# Altium footprint library Altera.PcbLib: 6 footprints (part 3 of 6)
Each footprint in its own frame and in the unit in brackets; x right, y up, seen from the top. Pads: shape width x height; smd on the part's side, far side on the other; paste and mask are expansions set on the pad; w line width, h text height; cw(c..) or ccw(c..) is an arc to the next point about the centre after c.
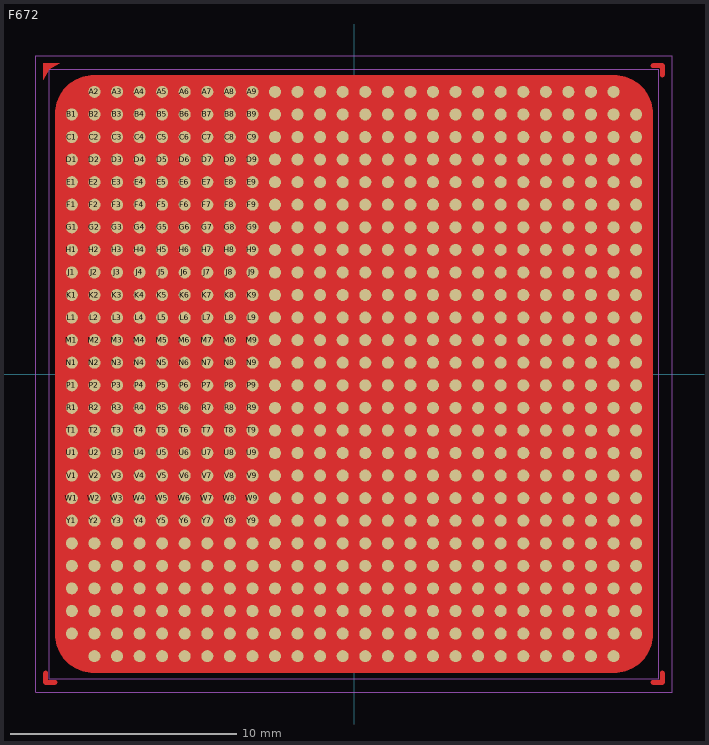
[diagram p2: the footprint, top view; thin cyan lines are the x and y axes]

## F672 [mil]
pads (672):
  round 21 smd mask+2: A2(-452.76,492.13) A3(-413.39,492.13) A4(-374.02,492.13) A5(-334.65,492.13) A6(-295.28,492.13) A7(-255.91,492.13) A8(-216.54,492.13) A9(-177.17,492.13) A10(-137.8,492.13) A11(-98.43,492.13) A12(-59.06,492.13) A13(-19.68,492.13) A14(19.69,492.13) A15(59.06,492.13) A16(98.43,492.13) A17(137.8,492.13) A18(177.17,492.13) A19(216.54,492.13) A20(255.91,492.13) A21(295.28,492.13) A22(334.65,492.13) A23(374.02,492.13) A24(413.39,492.13) A25(452.76,492.13) AA1(-492.13,-295.28) AA2(-452.76,-295.28) AA3(-413.39,-295.28) AA4(-374.02,-295.28) AA5(-334.65,-295.28) AA6(-295.28,-295.28) AA7(-255.91,-295.28) AA8(-216.54,-295.28) AA9(-177.17,-295.28) AA10(-137.8,-295.28) AA11(-98.43,-295.28) AA12(-59.06,-295.28) AA13(-19.68,-295.28) AA14(19.69,-295.28) AA15(59.06,-295.28) AA16(98.43,-295.28) AA17(137.8,-295.28) AA18(177.17,-295.28) AA19(216.54,-295.28) AA20(255.91,-295.28) AA21(295.28,-295.28) AA22(334.65,-295.28) AA23(374.02,-295.28) AA24(413.39,-295.28) AA25(452.76,-295.28) AA26(492.13,-295.28) AB1(-492.13,-334.65) AB2(-452.76,-334.65) AB3(-413.39,-334.65) AB4(-374.02,-334.65) AB5(-334.65,-334.65) AB6(-295.28,-334.65) AB7(-255.91,-334.65) AB8(-216.54,-334.65) AB9(-177.17,-334.65) AB10(-137.8,-334.65) AB11(-98.43,-334.65) AB12(-59.06,-334.65) AB13(-19.68,-334.65) AB14(19.69,-334.65) AB15(59.06,-334.65) AB16(98.43,-334.65) AB17(137.8,-334.65) AB18(177.17,-334.65) AB19(216.54,-334.65) AB20(255.91,-334.65) AB21(295.28,-334.65) AB22(334.65,-334.65) AB23(374.02,-334.65) AB24(413.39,-334.65) AB25(452.76,-334.65) AB26(492.13,-334.65) AC1(-492.13,-374.02) AC2(-452.76,-374.02) AC3(-413.39,-374.02) AC4(-374.02,-374.02) AC5(-334.65,-374.02) AC6(-295.28,-374.02) AC7(-255.91,-374.02) AC8(-216.54,-374.02) AC9(-177.17,-374.02) AC10(-137.8,-374.02) AC11(-98.43,-374.02) AC12(-59.06,-374.02) AC13(-19.68,-374.02) AC14(19.69,-374.02) AC15(59.06,-374.02) AC16(98.43,-374.02) AC17(137.8,-374.02) AC18(177.17,-374.02) AC19(216.54,-374.02) AC20(255.91,-374.02) AC21(295.28,-374.02) AC22(334.65,-374.02) AC23(374.02,-374.02) AC24(413.39,-374.02) AC25(452.76,-374.02) AC26(492.13,-374.02) AD1(-492.13,-413.39) AD2(-452.76,-413.39) AD3(-413.39,-413.39) AD4(-374.02,-413.39) AD5(-334.65,-413.39) AD6(-295.28,-413.39) AD7(-255.91,-413.39) AD8(-216.54,-413.39) AD9(-177.17,-413.39) AD10(-137.8,-413.39) AD11(-98.43,-413.39) AD12(-59.06,-413.39) AD13(-19.68,-413.39) AD14(19.69,-413.39) AD15(59.06,-413.39) AD16(98.43,-413.39) AD17(137.8,-413.39) AD18(177.17,-413.39) AD19(216.54,-413.39) AD20(255.91,-413.39) AD21(295.28,-413.39) AD22(334.65,-413.39) AD23(374.02,-413.39) AD24(413.39,-413.39) AD25(452.76,-413.39) AD26(492.13,-413.39) AE1(-492.13,-452.76) AE2(-452.76,-452.76) AE3(-413.39,-452.76) AE4(-374.02,-452.76) AE5(-334.65,-452.76) AE6(-295.28,-452.76) AE7(-255.91,-452.76) AE8(-216.54,-452.76) AE9(-177.17,-452.76) AE10(-137.8,-452.76) AE11(-98.43,-452.76) AE12(-59.06,-452.76) AE13(-19.68,-452.76) AE14(19.69,-452.76) AE15(59.06,-452.76) AE16(98.43,-452.76) AE17(137.8,-452.76) AE18(177.17,-452.76) AE19(216.54,-452.76) AE20(255.91,-452.76) AE21(295.28,-452.76) AE22(334.65,-452.76) AE23(374.02,-452.76) AE24(413.39,-452.76) AE25(452.76,-452.76) AE26(492.13,-452.76) AF2(-452.76,-492.13) AF3(-413.39,-492.13) AF4(-374.02,-492.13) AF5(-334.65,-492.13) AF6(-295.28,-492.13) AF7(-255.91,-492.13) AF8(-216.54,-492.13) AF9(-177.17,-492.13) AF10(-137.8,-492.13) AF11(-98.43,-492.13) AF12(-59.06,-492.13) AF13(-19.68,-492.13) AF14(19.69,-492.13) AF15(59.06,-492.13) AF16(98.43,-492.13) AF17(137.8,-492.13) AF18(177.17,-492.13) AF19(216.54,-492.13) AF20(255.91,-492.13) AF21(295.28,-492.13) AF22(334.65,-492.13) AF23(374.02,-492.13) AF24(413.39,-492.13) AF25(452.76,-492.13) B1(-492.13,452.76) B2(-452.76,452.76) B3(-413.39,452.76) B4(-374.02,452.76) B5(-334.65,452.76) B6(-295.28,452.76) B7(-255.91,452.76) B8(-216.54,452.76) B9(-177.17,452.76) B10(-137.8,452.76) B11(-98.43,452.76) B12(-59.06,452.76) B13(-19.68,452.76) B14(19.69,452.76) B15(59.06,452.76) B16(98.43,452.76) B17(137.8,452.76) B18(177.17,452.76) B19(216.54,452.76) B20(255.91,452.76) B21(295.28,452.76) B22(334.65,452.76) B23(374.02,452.76) B24(413.39,452.76) B25(452.76,452.76) B26(492.13,452.76) C1(-492.13,413.39) C2(-452.76,413.39) C3(-413.39,413.39) C4(-374.02,413.39) C5(-334.65,413.39) C6(-295.28,413.39) C7(-255.91,413.39) C8(-216.54,413.39) C9(-177.17,413.39) C10(-137.8,413.39) C11(-98.43,413.39) C12(-59.06,413.39) C13(-19.68,413.39) C14(19.69,413.39) C15(59.06,413.39) C16(98.43,413.39) C17(137.8,413.39) C18(177.17,413.39) C19(216.54,413.39) C20(255.91,413.39) C21(295.28,413.39) C22(334.65,413.39) C23(374.02,413.39) C24(413.39,413.39) C25(452.76,413.39) C26(492.13,413.39) D1(-492.13,374.02) D2(-452.76,374.02) D3(-413.39,374.02) D4(-374.02,374.02) D5(-334.65,374.02) D6(-295.28,374.02) D7(-255.91,374.02) D8(-216.54,374.02) D9(-177.17,374.02) D10(-137.8,374.02) D11(-98.43,374.02) D12(-59.06,374.02) D13(-19.68,374.02) D14(19.69,374.02) D15(59.06,374.02) D16(98.43,374.02) D17(137.8,374.02) D18(177.17,374.02) D19(216.54,374.02) D20(255.91,374.02) D21(295.28,374.02) D22(334.65,374.02) D23(374.02,374.02) D24(413.39,374.02) D25(452.76,374.02) D26(492.13,374.02) E1(-492.13,334.65) E2(-452.76,334.65) E3(-413.39,334.65) E4(-374.02,334.65) E5(-334.65,334.65) E6(-295.28,334.65) E7(-255.91,334.65) E8(-216.54,334.65) E9(-177.17,334.65) E10(-137.8,334.65) E11(-98.43,334.65) E12(-59.06,334.65) E13(-19.68,334.65) E14(19.69,334.65) E15(59.06,334.65) E16(98.43,334.65) E17(137.8,334.65) E18(177.17,334.65) E19(216.54,334.65) E20(255.91,334.65) E21(295.28,334.65) E22(334.65,334.65) E23(374.02,334.65) E24(413.39,334.65) E25(452.76,334.65) E26(492.13,334.65) F1(-492.13,295.28) F2(-452.76,295.28) F3(-413.39,295.28) F4(-374.02,295.28) F5(-334.65,295.28) F6(-295.28,295.28) F7(-255.91,295.28) F8(-216.54,295.28) F9(-177.17,295.28) F10(-137.8,295.28) F11(-98.43,295.28) F12(-59.06,295.28) F13(-19.68,295.28) F14(19.69,295.28) F15(59.06,295.28) F16(98.43,295.28) F17(137.8,295.28) F18(177.17,295.28) F19(216.54,295.28) F20(255.91,295.28) F21(295.28,295.28) F22(334.65,295.28) F23(374.02,295.28) F24(413.39,295.28) F25(452.76,295.28) F26(492.13,295.28) G1(-492.13,255.91) G2(-452.76,255.91) G3(-413.39,255.91) G4(-374.02,255.91) G5(-334.65,255.91) G6(-295.28,255.91) G7(-255.91,255.91) G8(-216.54,255.91) G9(-177.17,255.91) G10(-137.8,255.91) G11(-98.43,255.91) G12(-59.06,255.91) G13(-19.68,255.91) G14(19.69,255.91) G15(59.06,255.91) G16(98.43,255.91) G17(137.8,255.91) G18(177.17,255.91) G19(216.54,255.91) G20(255.91,255.91) G21(295.28,255.91) G22(334.65,255.91) G23(374.02,255.91) G24(413.39,255.91) G25(452.76,255.91) G26(492.13,255.91) H1(-492.13,216.54) H2(-452.76,216.54) H3(-413.39,216.54) H4(-374.02,216.54) H5(-334.65,216.54) H6(-295.28,216.54) H7(-255.91,216.54) H8(-216.54,216.54) H9(-177.17,216.54) H10(-137.8,216.54) H11(-98.43,216.54) H12(-59.06,216.54) H13(-19.68,216.54) H14(19.69,216.54) H15(59.06,216.54) H16(98.43,216.54) H17(137.8,216.54) H18(177.17,216.54) H19(216.54,216.54) H20(255.91,216.54) H21(295.28,216.54) H22(334.65,216.54) H23(374.02,216.54) H24(413.39,216.54) H25(452.76,216.54) H26(492.13,216.54) J1(-492.13,177.17) J2(-452.76,177.17) J3(-413.39,177.17) J4(-374.02,177.17) J5(-334.65,177.17) J6(-295.28,177.17) J7(-255.91,177.17) J8(-216.54,177.17) J9(-177.17,177.17) J10(-137.8,177.17) J11(-98.43,177.17) J12(-59.06,177.17) J13(-19.68,177.17) J14(19.69,177.17) J15(59.06,177.17) J16(98.43,177.17) J17(137.8,177.17) J18(177.17,177.17) J19(216.54,177.17) J20(255.91,177.17) J21(295.28,177.17) J22(334.65,177.17) J23(374.02,177.17) J24(413.39,177.17) J25(452.76,177.17) J26(492.13,177.17) K1(-492.13,137.8) K2(-452.76,137.8) K3(-413.39,137.8) K4(-374.02,137.8) K5(-334.65,137.8) K6(-295.28,137.8) K7(-255.91,137.8) K8(-216.54,137.8) K9(-177.17,137.8) K10(-137.8,137.8) K11(-98.43,137.8) K12(-59.06,137.8) K13(-19.68,137.8) K14(19.69,137.8) K15(59.06,137.8) K16(98.43,137.8) K17(137.8,137.8) K18(177.17,137.8) K19(216.54,137.8) K20(255.91,137.8) K21(295.28,137.8) K22(334.65,137.8) K23(374.02,137.8) K24(413.39,137.8) K25(452.76,137.8) K26(492.13,137.8) L1(-492.13,98.43) L2(-452.76,98.43) L3(-413.39,98.43) L4(-374.02,98.43) L5(-334.65,98.43) L6(-295.28,98.43) L7(-255.91,98.43) L8(-216.54,98.43) L9(-177.17,98.43) L10(-137.8,98.43) L11(-98.43,98.43) L12(-59.06,98.43) L13(-19.68,98.43) L14(19.69,98.43) L15(59.06,98.43) L16(98.43,98.43) L17(137.8,98.43) L18(177.17,98.43) L19(216.54,98.43) L20(255.91,98.43) L21(295.28,98.43) L22(334.65,98.43) L23(374.02,98.43) L24(413.39,98.43) L25(452.76,98.43) L26(492.13,98.43) M1(-492.13,59.06) M2(-452.76,59.06) M3(-413.39,59.06) M4(-374.02,59.06) M5(-334.65,59.06) M6(-295.28,59.06) M7(-255.91,59.06) M8(-216.54,59.06) M9(-177.17,59.06) M10(-137.8,59.06) M11(-98.43,59.06) M12(-59.06,59.06) M13(-19.68,59.06) M14(19.69,59.06) M15(59.06,59.06) M16(98.43,59.06) M17(137.8,59.06) M18(177.17,59.06) M19(216.54,59.06) M20(255.91,59.06) M21(295.28,59.06) M22(334.65,59.06) M23(374.02,59.06) M24(413.39,59.06) M25(452.76,59.06) M26(492.13,59.06) N1(-492.13,19.69) N2(-452.76,19.69) N3(-413.39,19.69) N4(-374.02,19.69) N5(-334.65,19.69) N6(-295.28,19.69) N7(-255.91,19.69) N8(-216.54,19.69) N9(-177.17,19.69) N10(-137.8,19.69) N11(-98.43,19.69) N12(-59.06,19.69) N13(-19.68,19.69) N14(19.69,19.69) N15(59.06,19.69) N16(98.43,19.69) N17(137.8,19.69) N18(177.17,19.69) N19(216.54,19.69) N20(255.91,19.69) N21(295.28,19.69) N22(334.65,19.69) N23(374.02,19.69) N24(413.39,19.69) N25(452.76,19.69) N26(492.13,19.69) P1(-492.13,-19.68) P2(-452.76,-19.68) P3(-413.39,-19.68) P4(-374.02,-19.68) P5(-334.65,-19.68) P6(-295.28,-19.68) P7(-255.91,-19.68) P8(-216.54,-19.68) P9(-177.17,-19.68) P10(-137.8,-19.68) P11(-98.43,-19.68) P12(-59.06,-19.68) P13(-19.68,-19.68) P14(19.69,-19.68) P15(59.06,-19.68) P16(98.43,-19.68) P17(137.8,-19.68) P18(177.17,-19.68) P19(216.54,-19.68) P20(255.91,-19.68) P21(295.28,-19.68) P22(334.65,-19.68) P23(374.02,-19.68) P24(413.39,-19.68) P25(452.76,-19.68) P26(492.13,-19.68) R1(-492.13,-59.06) R2(-452.76,-59.06) R3(-413.39,-59.06) R4(-374.02,-59.06) R5(-334.65,-59.06) R6(-295.28,-59.06) R7(-255.91,-59.06) R8(-216.54,-59.06) R9(-177.17,-59.06) R10(-137.8,-59.06) R11(-98.43,-59.06) R12(-59.06,-59.06) R13(-19.68,-59.06) R14(19.69,-59.06) R15(59.06,-59.06) R16(98.43,-59.06) R17(137.8,-59.06) R18(177.17,-59.06) R19(216.54,-59.06) R20(255.91,-59.06) R21(295.28,-59.06) R22(334.65,-59.06) R23(374.02,-59.06) R24(413.39,-59.06) R25(452.76,-59.06) R26(492.13,-59.06) T1(-492.13,-98.43) T2(-452.76,-98.43) T3(-413.39,-98.43) T4(-374.02,-98.43) T5(-334.65,-98.43) T6(-295.28,-98.43) T7(-255.91,-98.43) T8(-216.54,-98.43) T9(-177.17,-98.43) T10(-137.8,-98.43) T11(-98.43,-98.43) T12(-59.06,-98.43) T13(-19.68,-98.43) T14(19.69,-98.43) T15(59.06,-98.43) T16(98.43,-98.43) T17(137.8,-98.43) T18(177.17,-98.43) T19(216.54,-98.43) T20(255.91,-98.43) T21(295.28,-98.43) T22(334.65,-98.43) T23(374.02,-98.43) T24(413.39,-98.43) T25(452.76,-98.43) T26(492.13,-98.43) U1(-492.13,-137.8) U2(-452.76,-137.8) U3(-413.39,-137.8) U4(-374.02,-137.8) U5(-334.65,-137.8) U6(-295.28,-137.8) U7(-255.91,-137.8) U8(-216.54,-137.8) U9(-177.17,-137.8) U10(-137.8,-137.8) U11(-98.43,-137.8) U12(-59.06,-137.8) U13(-19.68,-137.8) U14(19.69,-137.8) U15(59.06,-137.8) U16(98.43,-137.8) U17(137.8,-137.8) U18(177.17,-137.8) U19(216.54,-137.8) U20(255.91,-137.8) U21(295.28,-137.8) U22(334.65,-137.8) U23(374.02,-137.8) U24(413.39,-137.8) U25(452.76,-137.8) U26(492.13,-137.8) V1(-492.13,-177.17) V2(-452.76,-177.17) V3(-413.39,-177.17) V4(-374.02,-177.17) V5(-334.65,-177.17) V6(-295.28,-177.17) V7(-255.91,-177.17) V8(-216.54,-177.17) V9(-177.17,-177.17) V10(-137.8,-177.17) V11(-98.43,-177.17) V12(-59.06,-177.17) V13(-19.68,-177.17) V14(19.69,-177.17) V15(59.06,-177.17) V16(98.43,-177.17) V17(137.8,-177.17) V18(177.17,-177.17) V19(216.54,-177.17) V20(255.91,-177.17) V21(295.28,-177.17) V22(334.65,-177.17) V23(374.02,-177.17) V24(413.39,-177.17) V25(452.76,-177.17) V26(492.13,-177.17) W1(-492.13,-216.54) W2(-452.76,-216.54) W3(-413.39,-216.54) W4(-374.02,-216.54) W5(-334.65,-216.54) W6(-295.28,-216.54) W7(-255.91,-216.54) W8(-216.54,-216.54) W9(-177.17,-216.54) W10(-137.8,-216.54) W11(-98.43,-216.54) W12(-59.06,-216.54) W13(-19.68,-216.54) W14(19.69,-216.54) W15(59.06,-216.54) W16(98.43,-216.54) W17(137.8,-216.54) W18(177.17,-216.54) W19(216.54,-216.54) W20(255.91,-216.54) W21(295.28,-216.54) W22(334.65,-216.54) W23(374.02,-216.54) W24(413.39,-216.54) W25(452.76,-216.54) W26(492.13,-216.54) Y1(-492.13,-255.91) Y2(-452.76,-255.91) Y3(-413.39,-255.91) Y4(-374.02,-255.91) Y5(-334.65,-255.91) Y6(-295.28,-255.91) Y7(-255.91,-255.91) Y8(-216.54,-255.91) Y9(-177.17,-255.91) Y10(-137.8,-255.91) Y11(-98.43,-255.91) Y12(-59.06,-255.91) Y13(-19.68,-255.91) Y14(19.69,-255.91) Y15(59.06,-255.91) Y16(98.43,-255.91) Y17(137.8,-255.91) Y18(177.17,-255.91) Y19(216.54,-255.91) Y20(255.91,-255.91) Y21(295.28,-255.91) Y22(334.65,-255.91) Y23(374.02,-255.91) Y24(413.39,-255.91) Y25(452.76,-255.91) Y26(492.13,-255.91)
Top Layer:
  region: -533.96,-521.96 -533.96,-521.16 -534.57,-519.69 -535.69,-518.57 -537.16,-517.96 -537.96,-517.96 -538.76,-517.96 -540.23,-518.57 -541.35,-519.69 -541.96,-521.16 -541.96,-521.96 -541.96,-537.96 -541.96,-538.76 -541.35,-540.23 -540.23,-541.35 -538.76,-541.96 -537.96,-541.96 -521.96,-541.96 -521.16,-541.96 -519.69,-541.35 -518.57,-540.23 -517.96,-538.76 -517.96,-537.96 -517.96,-537.16 -518.57,-535.69 -519.69,-534.57 -521.16,-533.96 -521.96,-533.96 -531.96,-533.96 -532.35,-533.92 -533.07,-533.62 -533.62,-533.07 -533.92,-532.35 -533.96,-531.96
  region: 521.96,-533.96 521.16,-533.96 519.69,-534.57 518.57,-535.69 517.96,-537.16 517.96,-537.96 517.96,-538.76 518.57,-540.23 519.69,-541.35 521.16,-541.96 521.96,-541.96 537.96,-541.96 538.76,-541.96 540.23,-541.35 541.35,-540.23 541.96,-538.76 541.96,-537.96 541.96,-521.96 541.96,-521.16 541.35,-519.69 540.23,-518.57 538.76,-517.96 537.96,-517.96 537.16,-517.96 535.69,-518.57 534.57,-519.69 533.96,-521.16 533.96,-521.96 533.96,-531.96 533.92,-532.35 533.62,-533.07 533.07,-533.62 532.35,-533.92 531.96,-533.96
  region: 533.96,521.96 533.96,521.16 534.57,519.69 535.69,518.57 537.16,517.96 537.96,517.96 538.76,517.96 540.23,518.57 541.35,519.69 541.96,521.16 541.96,521.96 541.96,537.96 541.96,538.76 541.35,540.23 540.23,541.35 538.76,541.96 537.96,541.96 521.96,541.96 521.16,541.96 519.69,541.35 518.57,540.23 517.96,538.76 517.96,537.96 517.96,537.16 518.57,535.69 519.69,534.57 521.16,533.96 521.96,533.96 531.96,533.96 532.35,533.92 533.07,533.62 533.62,533.07 533.92,532.35 533.96,531.96
  region: -541.96,541.96 -541.96,513.42 -531.5,531.5 -513.42,541.96
  pour cut-out: -452.76,521.26 -459.5,521.26 -472.74,518.63 -485.2,513.46 -496.42,505.97 -505.97,496.42 -513.46,485.2 -518.63,472.74 -521.26,459.5 -521.26,452.76 -521.26,-452.76 -521.26,-459.5 -518.63,-472.74 -513.46,-485.2 -505.97,-496.42 -496.42,-505.97 -485.2,-513.46 -472.74,-518.63 -459.5,-521.26 -452.76,-521.26 452.76,-521.26 459.5,-521.26 472.74,-518.63 485.21,-513.46 496.43,-505.97 505.97,-496.43 513.46,-485.2 518.63,-472.74 521.26,-459.5 521.26,-452.76 521.26,452.76 521.26,459.5 518.63,472.74 513.46,485.21 505.97,496.43 496.42,505.97 485.2,513.46 472.74,518.63 459.5,521.26 452.76,521.26
Top Designator:
  text ".Designator" at -127.64,-12.5 h35
Top Courtyard:
  lines w1: -555,-555 -555,555 555,555 555,-555 -555,-555
Top Component Outline:
  lines w1: -503.85,-464.57 -464.48,-503.94 ; -503.85,464.56 -464.48,503.93 ; 464.48,503.94 503.85,464.57 ; 464.57,-503.85 503.94,-464.48 ; -464.48,503.93 -464.48,503.94 ; -531.5,-531.5 -531.5,531.5 531.5,531.5 531.5,-531.5 -531.5,-531.5
3D body: height 40, standoff 35, extent -521.26,491.26 -491.26,521.26
3D body: height 21.81, standoff -1.81, extent -188.89,-503.94 -165.44,-480.32
3D body: height 21.81, standoff -1.81, extent -228.26,-503.94 -204.81,-480.32
3D body: height 21.81, standoff -1.81, extent -267.63,-503.94 -244.18,-480.32
3D body: height 21.81, standoff -1.81, extent -307,-503.94 -283.55,-480.32
3D body: height 21.81, standoff -1.81, extent -346.37,-503.94 -322.92,-480.32
3D body: height 21.81, standoff -1.81, extent -385.74,-503.94 -362.29,-480.32
3D body: height 21.81, standoff -1.81, extent -425.11,-503.94 -401.66,-480.32
3D body: height 21.81, standoff -1.81, extent -464.48,-503.94 -441.03,-480.32
3D body: height 21.81, standoff -1.81, extent 165.44,-503.94 188.89,-480.32
3D body: height 21.81, standoff -1.81, extent 126.07,-503.94 149.52,-480.32
3D body: height 21.81, standoff -1.81, extent 86.7,-503.94 110.15,-480.32
3D body: height 21.81, standoff -1.81, extent 47.33,-503.94 70.78,-480.32
3D body: height 21.81, standoff -1.81, extent 7.96,-503.94 31.41,-480.32
3D body: height 21.81, standoff -1.81, extent -31.41,-503.94 -7.96,-480.32
3D body: height 21.81, standoff -1.81, extent -70.78,-503.94 -47.33,-480.32
3D body: height 21.81, standoff -1.81, extent -110.15,-503.94 -86.7,-480.32
3D body: height 21.81, standoff -1.81, extent -149.52,-503.94 -126.07,-480.32
3D body: height 21.81, standoff -1.81, extent 441.03,-503.94 464.48,-480.32
3D body: height 21.81, standoff -1.81, extent 401.66,-503.94 425.11,-480.32
3D body: height 21.81, standoff -1.81, extent 362.29,-503.94 385.74,-480.32
3D body: height 21.81, standoff -1.81, extent 322.92,-503.94 346.37,-480.32
3D body: height 21.81, standoff -1.81, extent 283.55,-503.94 307,-480.32
3D body: height 21.81, standoff -1.81, extent 244.18,-503.94 267.63,-480.32
3D body: height 21.81, standoff -1.81, extent 204.81,-503.94 228.26,-480.32
3D body: height 21.81, standoff -1.81, extent -188.89,-464.57 -165.44,-440.95
3D body: height 21.81, standoff -1.81, extent -228.26,-464.57 -204.81,-440.95
3D body: height 21.81, standoff -1.81, extent -267.63,-464.57 -244.18,-440.95
3D body: height 21.81, standoff -1.81, extent -307,-464.57 -283.55,-440.95
3D body: height 21.81, standoff -1.81, extent -346.37,-464.57 -322.92,-440.95
3D body: height 21.81, standoff -1.81, extent -385.74,-464.57 -362.29,-440.95
3D body: height 21.81, standoff -1.81, extent -425.11,-464.57 -401.66,-440.95
3D body: height 21.81, standoff -1.81, extent -464.48,-464.57 -441.03,-440.95
3D body: height 21.81, standoff -1.81, extent -503.85,-464.57 -480.4,-440.95
3D body: height 21.81, standoff -1.81, extent 165.44,-464.57 188.89,-440.95
3D body: height 21.81, standoff -1.81, extent 126.07,-464.57 149.52,-440.95
3D body: height 21.81, standoff -1.81, extent 86.7,-464.57 110.15,-440.95
3D body: height 21.81, standoff -1.81, extent 47.33,-464.57 70.78,-440.95
3D body: height 21.81, standoff -1.81, extent 7.96,-464.57 31.41,-440.95
3D body: height 21.81, standoff -1.81, extent -31.41,-464.57 -7.96,-440.95
3D body: height 21.81, standoff -1.81, extent -70.78,-464.57 -47.33,-440.95
3D body: height 21.81, standoff -1.81, extent -110.15,-464.57 -86.7,-440.95
3D body: height 21.81, standoff -1.81, extent -149.52,-464.57 -126.07,-440.95
3D body: height 21.81, standoff -1.81, extent 480.4,-464.57 503.85,-440.95
3D body: height 21.81, standoff -1.81, extent 441.03,-464.57 464.48,-440.95
3D body: height 21.81, standoff -1.81, extent 401.66,-464.57 425.11,-440.95
3D body: height 21.81, standoff -1.81, extent 362.29,-464.57 385.74,-440.95
3D body: height 21.81, standoff -1.81, extent 322.92,-464.57 346.37,-440.95
3D body: height 21.81, standoff -1.81, extent 283.55,-464.57 307,-440.95
3D body: height 21.81, standoff -1.81, extent 244.18,-464.57 267.63,-440.95
3D body: height 21.81, standoff -1.81, extent 204.81,-464.57 228.26,-440.95
3D body: height 21.81, standoff -1.81, extent -188.89,-425.2 -165.44,-401.58
3D body: height 21.81, standoff -1.81, extent -228.26,-425.2 -204.81,-401.58
3D body: height 21.81, standoff -1.81, extent -267.63,-425.2 -244.18,-401.58
3D body: height 21.81, standoff -1.81, extent -307,-425.2 -283.55,-401.58
3D body: height 21.81, standoff -1.81, extent -346.37,-425.2 -322.92,-401.58
3D body: height 21.81, standoff -1.81, extent -385.74,-425.2 -362.29,-401.58
3D body: height 21.81, standoff -1.81, extent -425.11,-425.2 -401.66,-401.58
3D body: height 21.81, standoff -1.81, extent -464.48,-425.2 -441.03,-401.58
3D body: height 21.81, standoff -1.81, extent -503.85,-425.2 -480.4,-401.58
3D body: height 21.81, standoff -1.81, extent 165.44,-425.2 188.89,-401.58
3D body: height 21.81, standoff -1.81, extent 126.07,-425.2 149.52,-401.58
3D body: height 21.81, standoff -1.81, extent 86.7,-425.2 110.15,-401.58
3D body: height 21.81, standoff -1.81, extent 47.33,-425.2 70.78,-401.58
3D body: height 21.81, standoff -1.81, extent 7.96,-425.2 31.41,-401.58
3D body: height 21.81, standoff -1.81, extent -31.41,-425.2 -7.96,-401.58
3D body: height 21.81, standoff -1.81, extent -70.78,-425.2 -47.33,-401.58
3D body: height 21.81, standoff -1.81, extent -110.15,-425.2 -86.7,-401.58
3D body: height 21.81, standoff -1.81, extent -149.52,-425.2 -126.07,-401.58
3D body: height 21.81, standoff -1.81, extent 480.4,-425.2 503.85,-401.58
3D body: height 21.81, standoff -1.81, extent 441.03,-425.2 464.48,-401.58
3D body: height 21.81, standoff -1.81, extent 401.66,-425.2 425.11,-401.58
3D body: height 21.81, standoff -1.81, extent 362.29,-425.2 385.74,-401.58
3D body: height 21.81, standoff -1.81, extent 322.92,-425.2 346.37,-401.58
3D body: height 21.81, standoff -1.81, extent 283.55,-425.2 307,-401.58
3D body: height 21.81, standoff -1.81, extent 244.18,-425.2 267.63,-401.58
3D body: height 21.81, standoff -1.81, extent 204.81,-425.2 228.26,-401.58
3D body: height 21.81, standoff -1.81, extent -188.89,-385.83 -165.44,-362.21
3D body: height 21.81, standoff -1.81, extent -228.26,-385.83 -204.81,-362.21
3D body: height 21.81, standoff -1.81, extent -267.63,-385.83 -244.18,-362.21
3D body: height 21.81, standoff -1.81, extent -307,-385.83 -283.55,-362.21
3D body: height 21.81, standoff -1.81, extent -346.37,-385.83 -322.92,-362.21
3D body: height 21.81, standoff -1.81, extent -385.74,-385.83 -362.29,-362.21
3D body: height 21.81, standoff -1.81, extent -425.11,-385.83 -401.66,-362.21
3D body: height 21.81, standoff -1.81, extent -464.48,-385.83 -441.03,-362.21
3D body: height 21.81, standoff -1.81, extent -503.85,-385.83 -480.4,-362.21
3D body: height 21.81, standoff -1.81, extent 165.44,-385.83 188.89,-362.21
3D body: height 21.81, standoff -1.81, extent 126.07,-385.83 149.52,-362.21
3D body: height 21.81, standoff -1.81, extent 86.7,-385.83 110.15,-362.21
3D body: height 21.81, standoff -1.81, extent 47.33,-385.83 70.78,-362.21
3D body: height 21.81, standoff -1.81, extent 7.96,-385.83 31.41,-362.21
3D body: height 21.81, standoff -1.81, extent -31.41,-385.83 -7.96,-362.21
3D body: height 21.81, standoff -1.81, extent -70.78,-385.83 -47.33,-362.21
3D body: height 21.81, standoff -1.81, extent -110.15,-385.83 -86.7,-362.21
3D body: height 21.81, standoff -1.81, extent -149.52,-385.83 -126.07,-362.21
3D body: height 21.81, standoff -1.81, extent 480.4,-385.83 503.85,-362.21
3D body: height 21.81, standoff -1.81, extent 441.03,-385.83 464.48,-362.21
3D body: height 21.81, standoff -1.81, extent 401.66,-385.83 425.11,-362.21
3D body: height 21.81, standoff -1.81, extent 362.29,-385.83 385.74,-362.21
3D body: height 21.81, standoff -1.81, extent 322.92,-385.83 346.37,-362.21
3D body: height 21.81, standoff -1.81, extent 283.55,-385.83 307,-362.21
3D body: height 21.81, standoff -1.81, extent 244.18,-385.83 267.63,-362.21
3D body: height 21.81, standoff -1.81, extent 204.81,-385.83 228.26,-362.21
3D body: height 21.81, standoff -1.81, extent -188.89,-346.46 -165.44,-322.84
3D body: height 21.81, standoff -1.81, extent -228.26,-346.46 -204.81,-322.84
3D body: height 21.81, standoff -1.81, extent -267.63,-346.46 -244.18,-322.84
3D body: height 21.81, standoff -1.81, extent -307,-346.46 -283.55,-322.84
3D body: height 21.81, standoff -1.81, extent -346.37,-346.46 -322.92,-322.84
3D body: height 21.81, standoff -1.81, extent -385.74,-346.46 -362.29,-322.84
3D body: height 21.81, standoff -1.81, extent -425.11,-346.46 -401.66,-322.84
3D body: height 21.81, standoff -1.81, extent -464.48,-346.46 -441.03,-322.84
3D body: height 21.81, standoff -1.81, extent -503.85,-346.46 -480.4,-322.84
3D body: height 21.81, standoff -1.81, extent 165.44,-346.46 188.89,-322.84
3D body: height 21.81, standoff -1.81, extent 126.07,-346.46 149.52,-322.84
3D body: height 21.81, standoff -1.81, extent 86.7,-346.46 110.15,-322.84
3D body: height 21.81, standoff -1.81, extent 47.33,-346.46 70.78,-322.84
3D body: height 21.81, standoff -1.81, extent 7.96,-346.46 31.41,-322.84
3D body: height 21.81, standoff -1.81, extent -31.41,-346.46 -7.96,-322.84
3D body: height 21.81, standoff -1.81, extent -70.78,-346.46 -47.33,-322.84
3D body: height 21.81, standoff -1.81, extent -110.15,-346.46 -86.7,-322.84
3D body: height 21.81, standoff -1.81, extent -149.52,-346.46 -126.07,-322.84
3D body: height 21.81, standoff -1.81, extent 480.4,-346.46 503.85,-322.84
3D body: height 21.81, standoff -1.81, extent 441.03,-346.46 464.48,-322.84
3D body: height 21.81, standoff -1.81, extent 401.66,-346.46 425.11,-322.84
3D body: height 21.81, standoff -1.81, extent 362.29,-346.46 385.74,-322.84
3D body: height 21.81, standoff -1.81, extent 322.92,-346.46 346.37,-322.84
3D body: height 21.81, standoff -1.81, extent 283.55,-346.46 307,-322.84
3D body: height 21.81, standoff -1.81, extent 244.18,-346.46 267.63,-322.84
3D body: height 21.81, standoff -1.81, extent 204.81,-346.46 228.26,-322.84
3D body: height 21.81, standoff -1.81, extent -188.89,-307.09 -165.44,-283.47
3D body: height 21.81, standoff -1.81, extent -228.26,-307.09 -204.81,-283.47
3D body: height 21.81, standoff -1.81, extent -267.63,-307.09 -244.18,-283.47
3D body: height 21.81, standoff -1.81, extent -307,-307.09 -283.55,-283.47
3D body: height 21.81, standoff -1.81, extent -346.37,-307.09 -322.92,-283.47
3D body: height 21.81, standoff -1.81, extent -385.74,-307.09 -362.29,-283.47
3D body: height 21.81, standoff -1.81, extent -425.11,-307.09 -401.66,-283.47
3D body: height 21.81, standoff -1.81, extent -464.48,-307.09 -441.03,-283.47
3D body: height 21.81, standoff -1.81, extent -503.85,-307.09 -480.4,-283.47
3D body: height 21.81, standoff -1.81, extent 165.44,-307.09 188.89,-283.47
3D body: height 21.81, standoff -1.81, extent 126.07,-307.09 149.52,-283.47
3D body: height 21.81, standoff -1.81, extent 86.7,-307.09 110.15,-283.47
3D body: height 21.81, standoff -1.81, extent 47.33,-307.09 70.78,-283.47
3D body: height 21.81, standoff -1.81, extent 7.96,-307.09 31.41,-283.47
3D body: height 21.81, standoff -1.81, extent -31.41,-307.09 -7.96,-283.47
3D body: height 21.81, standoff -1.81, extent -70.78,-307.09 -47.33,-283.47
3D body: height 21.81, standoff -1.81, extent -110.15,-307.09 -86.7,-283.47
3D body: height 21.81, standoff -1.81, extent -149.52,-307.09 -126.07,-283.47
3D body: height 21.81, standoff -1.81, extent 480.4,-307.09 503.85,-283.47
3D body: height 21.81, standoff -1.81, extent 441.03,-307.09 464.48,-283.47
3D body: height 21.81, standoff -1.81, extent 401.66,-307.09 425.11,-283.47
3D body: height 21.81, standoff -1.81, extent 362.29,-307.09 385.74,-283.47
3D body: height 21.81, standoff -1.81, extent 322.92,-307.09 346.37,-283.47
3D body: height 21.81, standoff -1.81, extent 283.55,-307.09 307,-283.47
3D body: height 21.81, standoff -1.81, extent 244.18,-307.09 267.63,-283.47
3D body: height 21.81, standoff -1.81, extent 204.81,-307.09 228.26,-283.47
3D body: height 21.81, standoff -1.81, extent -188.89,-267.72 -165.44,-244.1
3D body: height 21.81, standoff -1.81, extent -228.26,-267.72 -204.81,-244.1
3D body: height 21.81, standoff -1.81, extent -267.63,-267.72 -244.18,-244.1
3D body: height 21.81, standoff -1.81, extent -307,-267.72 -283.55,-244.1
3D body: height 21.81, standoff -1.81, extent -346.37,-267.72 -322.92,-244.1
3D body: height 21.81, standoff -1.81, extent -385.74,-267.72 -362.29,-244.1
3D body: height 21.81, standoff -1.81, extent -425.11,-267.72 -401.66,-244.1
3D body: height 21.81, standoff -1.81, extent -464.48,-267.72 -441.03,-244.1
3D body: height 21.81, standoff -1.81, extent -503.85,-267.72 -480.4,-244.1
3D body: height 21.81, standoff -1.81, extent 165.44,-267.72 188.89,-244.1
3D body: height 21.81, standoff -1.81, extent 126.07,-267.72 149.52,-244.1
3D body: height 21.81, standoff -1.81, extent 86.7,-267.72 110.15,-244.1
3D body: height 21.81, standoff -1.81, extent 47.33,-267.72 70.78,-244.1
3D body: height 21.81, standoff -1.81, extent 7.96,-267.72 31.41,-244.1
3D body: height 21.81, standoff -1.81, extent -31.41,-267.72 -7.96,-244.1
3D body: height 21.81, standoff -1.81, extent -70.78,-267.72 -47.33,-244.1
3D body: height 21.81, standoff -1.81, extent -110.15,-267.72 -86.7,-244.1
3D body: height 21.81, standoff -1.81, extent -149.52,-267.72 -126.07,-244.1
3D body: height 21.81, standoff -1.81, extent 480.4,-267.72 503.85,-244.1
3D body: height 21.81, standoff -1.81, extent 441.03,-267.72 464.48,-244.1
3D body: height 21.81, standoff -1.81, extent 401.66,-267.72 425.11,-244.1
3D body: height 21.81, standoff -1.81, extent 362.29,-267.72 385.74,-244.1
3D body: height 21.81, standoff -1.81, extent 322.92,-267.72 346.37,-244.1
3D body: height 21.81, standoff -1.81, extent 283.55,-267.72 307,-244.1
3D body: height 21.81, standoff -1.81, extent 244.18,-267.72 267.63,-244.1
3D body: height 21.81, standoff -1.81, extent 204.81,-267.72 228.26,-244.1
3D body: height 21.81, standoff -1.81, extent -188.89,-228.35 -165.44,-204.73
3D body: height 21.81, standoff -1.81, extent -228.26,-228.35 -204.81,-204.73
3D body: height 21.81, standoff -1.81, extent -267.63,-228.35 -244.18,-204.73
3D body: height 21.81, standoff -1.81, extent -307,-228.35 -283.55,-204.73
3D body: height 21.81, standoff -1.81, extent -346.37,-228.35 -322.92,-204.73
3D body: height 21.81, standoff -1.81, extent -385.74,-228.35 -362.29,-204.73
3D body: height 21.81, standoff -1.81, extent -425.11,-228.35 -401.66,-204.73
3D body: height 21.81, standoff -1.81, extent -464.48,-228.35 -441.03,-204.73
3D body: height 21.81, standoff -1.81, extent -503.85,-228.35 -480.4,-204.73
3D body: height 21.81, standoff -1.81, extent 165.44,-228.35 188.89,-204.73
3D body: height 21.81, standoff -1.81, extent 126.07,-228.35 149.52,-204.73
3D body: height 21.81, standoff -1.81, extent 86.7,-228.35 110.15,-204.73
3D body: height 21.81, standoff -1.81, extent 47.33,-228.35 70.78,-204.73
3D body: height 21.81, standoff -1.81, extent 7.96,-228.35 31.41,-204.73
3D body: height 21.81, standoff -1.81, extent -31.41,-228.35 -7.96,-204.73
3D body: height 21.81, standoff -1.81, extent -70.78,-228.35 -47.33,-204.73
3D body: height 21.81, standoff -1.81, extent -110.15,-228.35 -86.7,-204.73
3D body: height 21.81, standoff -1.81, extent -149.52,-228.35 -126.07,-204.73
3D body: height 21.81, standoff -1.81, extent 480.4,-228.35 503.85,-204.73
3D body: height 21.81, standoff -1.81, extent 441.03,-228.35 464.48,-204.73
3D body: height 21.81, standoff -1.81, extent 401.66,-228.35 425.11,-204.73
3D body: height 21.81, standoff -1.81, extent 362.29,-228.35 385.74,-204.73
3D body: height 21.81, standoff -1.81, extent 322.92,-228.35 346.37,-204.73
3D body: height 21.81, standoff -1.81, extent 283.55,-228.35 307,-204.73
3D body: height 21.81, standoff -1.81, extent 244.18,-228.35 267.63,-204.73
3D body: height 21.81, standoff -1.81, extent 204.81,-228.35 228.26,-204.73
3D body: height 21.81, standoff -1.81, extent -188.89,-188.98 -165.44,-165.36
3D body: height 21.81, standoff -1.81, extent -228.26,-188.98 -204.81,-165.36
3D body: height 21.81, standoff -1.81, extent -267.63,-188.98 -244.18,-165.36
3D body: height 21.81, standoff -1.81, extent -307,-188.98 -283.55,-165.36
3D body: height 21.81, standoff -1.81, extent -346.37,-188.98 -322.92,-165.36
3D body: height 21.81, standoff -1.81, extent -385.74,-188.98 -362.29,-165.36
3D body: height 21.81, standoff -1.81, extent -425.11,-188.98 -401.66,-165.36
3D body: height 21.81, standoff -1.81, extent -464.48,-188.98 -441.03,-165.36
3D body: height 21.81, standoff -1.81, extent -503.85,-188.98 -480.4,-165.36
3D body: height 21.81, standoff -1.81, extent 165.44,-188.98 188.89,-165.36
3D body: height 21.81, standoff -1.81, extent 126.07,-188.98 149.52,-165.36
3D body: height 21.81, standoff -1.81, extent 86.7,-188.98 110.15,-165.36
3D body: height 21.81, standoff -1.81, extent 47.33,-188.98 70.78,-165.36
3D body: height 21.81, standoff -1.81, extent 7.96,-188.98 31.41,-165.36
3D body: height 21.81, standoff -1.81, extent -31.41,-188.98 -7.96,-165.36
3D body: height 21.81, standoff -1.81, extent -70.78,-188.98 -47.33,-165.36
3D body: height 21.81, standoff -1.81, extent -110.15,-188.98 -86.7,-165.36
3D body: height 21.81, standoff -1.81, extent -149.52,-188.98 -126.07,-165.36
3D body: height 21.81, standoff -1.81, extent 480.4,-188.98 503.85,-165.36
3D body: height 21.81, standoff -1.81, extent 441.03,-188.98 464.48,-165.36
3D body: height 21.81, standoff -1.81, extent 401.66,-188.98 425.11,-165.36
3D body: height 21.81, standoff -1.81, extent 362.29,-188.98 385.74,-165.36
3D body: height 21.81, standoff -1.81, extent 322.92,-188.98 346.37,-165.36
3D body: height 21.81, standoff -1.81, extent 283.55,-188.98 307,-165.36
3D body: height 21.81, standoff -1.81, extent 244.18,-188.98 267.63,-165.36
3D body: height 21.81, standoff -1.81, extent 204.81,-188.98 228.26,-165.36
3D body: height 21.81, standoff -1.81, extent -188.89,-149.61 -165.44,-125.99
3D body: height 21.81, standoff -1.81, extent -228.26,-149.61 -204.81,-125.99
3D body: height 21.81, standoff -1.81, extent -267.63,-149.61 -244.18,-125.99
3D body: height 21.81, standoff -1.81, extent -307,-149.61 -283.55,-125.99
3D body: height 21.81, standoff -1.81, extent -346.37,-149.61 -322.92,-125.99
3D body: height 21.81, standoff -1.81, extent -385.74,-149.61 -362.29,-125.99
3D body: height 21.81, standoff -1.81, extent -425.11,-149.61 -401.66,-125.99
3D body: height 21.81, standoff -1.81, extent -464.48,-149.61 -441.03,-125.99
3D body: height 21.81, standoff -1.81, extent -503.85,-149.61 -480.4,-125.99
3D body: height 21.81, standoff -1.81, extent 165.44,-149.61 188.89,-125.99
3D body: height 21.81, standoff -1.81, extent 126.07,-149.61 149.52,-125.99
3D body: height 21.81, standoff -1.81, extent 86.7,-149.61 110.15,-125.99
3D body: height 21.81, standoff -1.81, extent 47.33,-149.61 70.78,-125.99
3D body: height 21.81, standoff -1.81, extent 7.96,-149.61 31.41,-125.99
3D body: height 21.81, standoff -1.81, extent -31.41,-149.61 -7.96,-125.99
3D body: height 21.81, standoff -1.81, extent -70.78,-149.61 -47.33,-125.99
3D body: height 21.81, standoff -1.81, extent -110.15,-149.61 -86.7,-125.99
3D body: height 21.81, standoff -1.81, extent -149.52,-149.61 -126.07,-125.99
3D body: height 21.81, standoff -1.81, extent 480.4,-149.61 503.85,-125.99
3D body: height 21.81, standoff -1.81, extent 441.03,-149.61 464.48,-125.99
3D body: height 21.81, standoff -1.81, extent 401.66,-149.61 425.11,-125.99
3D body: height 21.81, standoff -1.81, extent 362.29,-149.61 385.74,-125.99
3D body: height 21.81, standoff -1.81, extent 322.92,-149.61 346.37,-125.99
3D body: height 21.81, standoff -1.81, extent 283.55,-149.61 307,-125.99
3D body: height 21.81, standoff -1.81, extent 244.18,-149.61 267.63,-125.99
3D body: height 21.81, standoff -1.81, extent 204.81,-149.61 228.26,-125.99
3D body: height 21.81, standoff -1.81, extent -188.89,-110.24 -165.44,-86.62
3D body: height 21.81, standoff -1.81, extent -228.26,-110.24 -204.81,-86.62
3D body: height 21.81, standoff -1.81, extent -267.63,-110.24 -244.18,-86.62
3D body: height 21.81, standoff -1.81, extent -307,-110.24 -283.55,-86.62
3D body: height 21.81, standoff -1.81, extent -346.37,-110.24 -322.92,-86.62
3D body: height 21.81, standoff -1.81, extent -385.74,-110.24 -362.29,-86.62
3D body: height 21.81, standoff -1.81, extent -425.11,-110.24 -401.66,-86.62
3D body: height 21.81, standoff -1.81, extent -464.48,-110.24 -441.03,-86.62
3D body: height 21.81, standoff -1.81, extent -503.85,-110.24 -480.4,-86.62
3D body: height 21.81, standoff -1.81, extent 165.44,-110.24 188.89,-86.62
3D body: height 21.81, standoff -1.81, extent 126.07,-110.24 149.52,-86.62
3D body: height 21.81, standoff -1.81, extent 86.7,-110.24 110.15,-86.62
3D body: height 21.81, standoff -1.81, extent 47.33,-110.24 70.78,-86.62
3D body: height 21.81, standoff -1.81, extent 7.96,-110.24 31.41,-86.62
3D body: height 21.81, standoff -1.81, extent -31.41,-110.24 -7.96,-86.62
3D body: height 21.81, standoff -1.81, extent -70.78,-110.24 -47.33,-86.62
3D body: height 21.81, standoff -1.81, extent -110.15,-110.24 -86.7,-86.62
3D body: height 21.81, standoff -1.81, extent -149.52,-110.24 -126.07,-86.62
3D body: height 21.81, standoff -1.81, extent 480.4,-110.24 503.85,-86.62
3D body: height 21.81, standoff -1.81, extent 441.03,-110.24 464.48,-86.62
3D body: height 21.81, standoff -1.81, extent 401.66,-110.24 425.11,-86.62
3D body: height 21.81, standoff -1.81, extent 362.29,-110.24 385.74,-86.62
3D body: height 21.81, standoff -1.81, extent 322.92,-110.24 346.37,-86.62
3D body: height 21.81, standoff -1.81, extent 283.55,-110.24 307,-86.62
3D body: height 21.81, standoff -1.81, extent 244.18,-110.24 267.63,-86.62
3D body: height 21.81, standoff -1.81, extent 204.81,-110.24 228.26,-86.62
3D body: height 21.81, standoff -1.81, extent -188.89,-70.87 -165.44,-47.25
3D body: height 21.81, standoff -1.81, extent -228.26,-70.87 -204.81,-47.25
3D body: height 21.81, standoff -1.81, extent -267.63,-70.87 -244.18,-47.25
3D body: height 21.81, standoff -1.81, extent -307,-70.87 -283.55,-47.25
3D body: height 21.81, standoff -1.81, extent -346.37,-70.87 -322.92,-47.25
3D body: height 21.81, standoff -1.81, extent -385.74,-70.87 -362.29,-47.25
3D body: height 21.81, standoff -1.81, extent -425.11,-70.87 -401.66,-47.25
3D body: height 21.81, standoff -1.81, extent -464.48,-70.87 -441.03,-47.25
3D body: height 21.81, standoff -1.81, extent -503.85,-70.87 -480.4,-47.25
3D body: height 21.81, standoff -1.81, extent 165.44,-70.87 188.89,-47.25
3D body: height 21.81, standoff -1.81, extent 126.07,-70.87 149.52,-47.25
3D body: height 21.81, standoff -1.81, extent 86.7,-70.87 110.15,-47.25
3D body: height 21.81, standoff -1.81, extent 47.33,-70.87 70.78,-47.25
3D body: height 21.81, standoff -1.81, extent 7.96,-70.87 31.41,-47.25
3D body: height 21.81, standoff -1.81, extent -31.41,-70.87 -7.96,-47.25
3D body: height 21.81, standoff -1.81, extent -70.78,-70.87 -47.33,-47.25
3D body: height 21.81, standoff -1.81, extent -110.15,-70.87 -86.7,-47.25
3D body: height 21.81, standoff -1.81, extent -149.52,-70.87 -126.07,-47.25
3D body: height 21.81, standoff -1.81, extent 480.4,-70.87 503.85,-47.25
3D body: height 21.81, standoff -1.81, extent 441.03,-70.87 464.48,-47.25
3D body: height 21.81, standoff -1.81, extent 401.66,-70.87 425.11,-47.25
3D body: height 21.81, standoff -1.81, extent 362.29,-70.87 385.74,-47.25
3D body: height 21.81, standoff -1.81, extent 322.92,-70.87 346.37,-47.25
3D body: height 21.81, standoff -1.81, extent 283.55,-70.87 307,-47.25
3D body: height 21.81, standoff -1.81, extent 244.18,-70.87 267.63,-47.25
3D body: height 21.81, standoff -1.81, extent 204.81,-70.87 228.26,-47.25
3D body: height 21.81, standoff -1.81, extent -188.89,-31.5 -165.44,-7.88
3D body: height 21.81, standoff -1.81, extent -228.26,-31.5 -204.81,-7.88
3D body: height 21.81, standoff -1.81, extent -267.63,-31.5 -244.18,-7.88
3D body: height 21.81, standoff -1.81, extent -307,-31.5 -283.55,-7.88
3D body: height 21.81, standoff -1.81, extent -346.37,-31.5 -322.92,-7.88
3D body: height 21.81, standoff -1.81, extent -385.74,-31.5 -362.29,-7.88
3D body: height 21.81, standoff -1.81, extent -425.11,-31.5 -401.66,-7.88
3D body: height 21.81, standoff -1.81, extent -464.48,-31.5 -441.03,-7.88
3D body: height 21.81, standoff -1.81, extent -503.85,-31.5 -480.4,-7.88
3D body: height 21.81, standoff -1.81, extent 165.44,-31.5 188.89,-7.88
3D body: height 21.81, standoff -1.81, extent 126.07,-31.5 149.52,-7.88
3D body: height 21.81, standoff -1.81, extent 86.7,-31.5 110.15,-7.88
3D body: height 21.81, standoff -1.81, extent 47.33,-31.5 70.78,-7.88
3D body: height 21.81, standoff -1.81, extent 7.96,-31.5 31.41,-7.88
3D body: height 21.81, standoff -1.81, extent -31.41,-31.5 -7.96,-7.88
3D body: height 21.81, standoff -1.81, extent -70.78,-31.5 -47.33,-7.88
3D body: height 21.81, standoff -1.81, extent -110.15,-31.5 -86.7,-7.88
3D body: height 21.81, standoff -1.81, extent -149.52,-31.5 -126.07,-7.88
3D body: height 21.81, standoff -1.81, extent 480.4,-31.5 503.85,-7.88
3D body: height 21.81, standoff -1.81, extent 441.03,-31.5 464.48,-7.88
3D body: height 21.81, standoff -1.81, extent 401.66,-31.5 425.11,-7.88
3D body: height 21.81, standoff -1.81, extent 362.29,-31.5 385.74,-7.88
3D body: height 21.81, standoff -1.81, extent 322.92,-31.5 346.37,-7.88
3D body: height 21.81, standoff -1.81, extent 283.55,-31.5 307,-7.88
3D body: height 21.81, standoff -1.81, extent 244.18,-31.5 267.63,-7.88
3D body: height 21.81, standoff -1.81, extent 204.81,-31.5 228.26,-7.88
3D body: height 21.81, standoff -1.81, extent -188.89,7.87 -165.44,31.49
3D body: height 21.81, standoff -1.81, extent -228.26,7.87 -204.81,31.49
3D body: height 21.81, standoff -1.81, extent -267.63,7.87 -244.18,31.49
3D body: height 21.81, standoff -1.81, extent -307,7.87 -283.55,31.49
3D body: height 21.81, standoff -1.81, extent -346.37,7.87 -322.92,31.49
3D body: height 21.81, standoff -1.81, extent -385.74,7.87 -362.29,31.49
3D body: height 21.81, standoff -1.81, extent -425.11,7.87 -401.66,31.49
3D body: height 21.81, standoff -1.81, extent -464.48,7.87 -441.03,31.49
3D body: height 21.81, standoff -1.81, extent -503.85,7.87 -480.4,31.49
3D body: height 21.81, standoff -1.81, extent 165.44,7.87 188.89,31.49
3D body: height 21.81, standoff -1.81, extent 126.07,7.87 149.52,31.49
3D body: height 21.81, standoff -1.81, extent 86.7,7.87 110.15,31.49
3D body: height 21.81, standoff -1.81, extent 47.33,7.87 70.78,31.49
3D body: height 21.81, standoff -1.81, extent 7.96,7.87 31.41,31.49
3D body: height 21.81, standoff -1.81, extent -31.41,7.87 -7.96,31.49
3D body: height 21.81, standoff -1.81, extent -70.78,7.87 -47.33,31.49
3D body: height 21.81, standoff -1.81, extent -110.15,7.87 -86.7,31.49
3D body: height 21.81, standoff -1.81, extent -149.52,7.87 -126.07,31.49
3D body: height 21.81, standoff -1.81, extent 480.4,7.87 503.85,31.49
3D body: height 21.81, standoff -1.81, extent 441.03,7.87 464.48,31.49
3D body: height 21.81, standoff -1.81, extent 401.66,7.87 425.11,31.49
3D body: height 21.81, standoff -1.81, extent 362.29,7.87 385.74,31.49
3D body: height 21.81, standoff -1.81, extent 322.92,7.87 346.37,31.49
3D body: height 21.81, standoff -1.81, extent 283.55,7.87 307,31.49
3D body: height 21.81, standoff -1.81, extent 244.18,7.87 267.63,31.49
3D body: height 21.81, standoff -1.81, extent 204.81,7.87 228.26,31.49
3D body: height 21.81, standoff -1.81, extent -188.89,47.24 -165.44,70.86
3D body: height 21.81, standoff -1.81, extent -228.26,47.24 -204.81,70.86
3D body: height 21.81, standoff -1.81, extent -267.63,47.24 -244.18,70.86
3D body: height 21.81, standoff -1.81, extent -307,47.24 -283.55,70.86
3D body: height 21.81, standoff -1.81, extent -346.37,47.24 -322.92,70.86
3D body: height 21.81, standoff -1.81, extent -385.74,47.24 -362.29,70.86
3D body: height 21.81, standoff -1.81, extent -425.11,47.24 -401.66,70.86
3D body: height 21.81, standoff -1.81, extent -464.48,47.24 -441.03,70.86
3D body: height 21.81, standoff -1.81, extent -503.85,47.24 -480.4,70.86
3D body: height 21.81, standoff -1.81, extent 165.44,47.24 188.89,70.86
3D body: height 21.81, standoff -1.81, extent 126.07,47.24 149.52,70.86
3D body: height 21.81, standoff -1.81, extent 86.7,47.24 110.15,70.86
3D body: height 21.81, standoff -1.81, extent 47.33,47.24 70.78,70.86
3D body: height 21.81, standoff -1.81, extent 7.96,47.24 31.41,70.86
3D body: height 21.81, standoff -1.81, extent -31.41,47.24 -7.96,70.86
3D body: height 21.81, standoff -1.81, extent -70.78,47.24 -47.33,70.86
3D body: height 21.81, standoff -1.81, extent -110.15,47.24 -86.7,70.86
3D body: height 21.81, standoff -1.81, extent -149.52,47.24 -126.07,70.86
3D body: height 21.81, standoff -1.81, extent 480.4,47.24 503.85,70.86
3D body: height 21.81, standoff -1.81, extent 441.03,47.24 464.48,70.86
3D body: height 21.81, standoff -1.81, extent 401.66,47.24 425.11,70.86
3D body: height 21.81, standoff -1.81, extent 362.29,47.24 385.74,70.86
3D body: height 21.81, standoff -1.81, extent 322.92,47.24 346.37,70.86
3D body: height 21.81, standoff -1.81, extent 283.55,47.24 307,70.86
3D body: height 21.81, standoff -1.81, extent 244.18,47.24 267.63,70.86
3D body: height 21.81, standoff -1.81, extent 204.81,47.24 228.26,70.86
3D body: height 21.81, standoff -1.81, extent -188.89,86.61 -165.44,110.23
3D body: height 21.81, standoff -1.81, extent -228.26,86.61 -204.81,110.23
3D body: height 21.81, standoff -1.81, extent -267.63,86.61 -244.18,110.23
3D body: height 21.81, standoff -1.81, extent -307,86.61 -283.55,110.23
3D body: height 21.81, standoff -1.81, extent -346.37,86.61 -322.92,110.23
3D body: height 21.81, standoff -1.81, extent -385.74,86.61 -362.29,110.23
3D body: height 21.81, standoff -1.81, extent -425.11,86.61 -401.66,110.23
3D body: height 21.81, standoff -1.81, extent -464.48,86.61 -441.03,110.23
3D body: height 21.81, standoff -1.81, extent -503.85,86.61 -480.4,110.23
3D body: height 21.81, standoff -1.81, extent 165.44,86.61 188.89,110.23
3D body: height 21.81, standoff -1.81, extent 126.07,86.61 149.52,110.23
3D body: height 21.81, standoff -1.81, extent 86.7,86.61 110.15,110.23
3D body: height 21.81, standoff -1.81, extent 47.33,86.61 70.78,110.23
3D body: height 21.81, standoff -1.81, extent 7.96,86.61 31.41,110.23
3D body: height 21.81, standoff -1.81, extent -31.41,86.61 -7.96,110.23
3D body: height 21.81, standoff -1.81, extent -70.78,86.61 -47.33,110.23
3D body: height 21.81, standoff -1.81, extent -110.15,86.61 -86.7,110.23
3D body: height 21.81, standoff -1.81, extent -149.52,86.61 -126.07,110.23
3D body: height 21.81, standoff -1.81, extent 480.4,86.61 503.85,110.23
3D body: height 21.81, standoff -1.81, extent 441.03,86.61 464.48,110.23
3D body: height 21.81, standoff -1.81, extent 401.66,86.61 425.11,110.23
3D body: height 21.81, standoff -1.81, extent 362.29,86.61 385.74,110.23
3D body: height 21.81, standoff -1.81, extent 322.92,86.61 346.37,110.23
3D body: height 21.81, standoff -1.81, extent 283.55,86.61 307,110.23
3D body: height 21.81, standoff -1.81, extent 244.18,86.61 267.63,110.23
3D body: height 21.81, standoff -1.81, extent 204.81,86.61 228.26,110.23
3D body: height 21.81, standoff -1.81, extent -188.89,125.98 -165.44,149.6
3D body: height 21.81, standoff -1.81, extent -228.26,125.98 -204.81,149.6
3D body: height 21.81, standoff -1.81, extent -267.63,125.98 -244.18,149.6
3D body: height 21.81, standoff -1.81, extent -307,125.98 -283.55,149.6
3D body: height 21.81, standoff -1.81, extent -346.37,125.98 -322.92,149.6
3D body: height 21.81, standoff -1.81, extent -385.74,125.98 -362.29,149.6
3D body: height 21.81, standoff -1.81, extent -425.11,125.98 -401.66,149.6
3D body: height 21.81, standoff -1.81, extent -464.48,125.98 -441.03,149.6
3D body: height 21.81, standoff -1.81, extent -503.85,125.98 -480.4,149.6
3D body: height 21.81, standoff -1.81, extent 165.44,125.98 188.89,149.6
3D body: height 21.81, standoff -1.81, extent 126.07,125.98 149.52,149.6
3D body: height 21.81, standoff -1.81, extent 86.7,125.98 110.15,149.6
3D body: height 21.81, standoff -1.81, extent 47.33,125.98 70.78,149.6
3D body: height 21.81, standoff -1.81, extent 7.96,125.98 31.41,149.6
3D body: height 21.81, standoff -1.81, extent -31.41,125.98 -7.96,149.6
3D body: height 21.81, standoff -1.81, extent -70.78,125.98 -47.33,149.6
3D body: height 21.81, standoff -1.81, extent -110.15,125.98 -86.7,149.6
3D body: height 21.81, standoff -1.81, extent -149.52,125.98 -126.07,149.6
3D body: height 21.81, standoff -1.81, extent 480.4,125.98 503.85,149.6
3D body: height 21.81, standoff -1.81, extent 441.03,125.98 464.48,149.6
3D body: height 21.81, standoff -1.81, extent 401.66,125.98 425.11,149.6
3D body: height 21.81, standoff -1.81, extent 362.29,125.98 385.74,149.6
3D body: height 21.81, standoff -1.81, extent 322.92,125.98 346.37,149.6
3D body: height 21.81, standoff -1.81, extent 283.55,125.98 307,149.6
3D body: height 21.81, standoff -1.81, extent 244.18,125.98 267.63,149.6
3D body: height 21.81, standoff -1.81, extent 204.81,125.98 228.26,149.6
3D body: height 21.81, standoff -1.81, extent -188.89,165.35 -165.44,188.97
3D body: height 21.81, standoff -1.81, extent -228.26,165.35 -204.81,188.97
3D body: height 21.81, standoff -1.81, extent -267.63,165.35 -244.18,188.97
3D body: height 21.81, standoff -1.81, extent -307,165.35 -283.55,188.97
3D body: height 21.81, standoff -1.81, extent -346.37,165.35 -322.92,188.97
3D body: height 21.81, standoff -1.81, extent -385.74,165.35 -362.29,188.97
3D body: height 21.81, standoff -1.81, extent -425.11,165.35 -401.66,188.97
3D body: height 21.81, standoff -1.81, extent -464.48,165.35 -441.03,188.97
3D body: height 21.81, standoff -1.81, extent -503.85,165.35 -480.4,188.97
3D body: height 21.81, standoff -1.81, extent 165.44,165.35 188.89,188.97
3D body: height 21.81, standoff -1.81, extent 126.07,165.35 149.52,188.97
3D body: height 21.81, standoff -1.81, extent 86.7,165.35 110.15,188.97
3D body: height 21.81, standoff -1.81, extent 47.33,165.35 70.78,188.97
3D body: height 21.81, standoff -1.81, extent 7.96,165.35 31.41,188.97
3D body: height 21.81, standoff -1.81, extent -31.41,165.35 -7.96,188.97
3D body: height 21.81, standoff -1.81, extent -70.78,165.35 -47.33,188.97
3D body: height 21.81, standoff -1.81, extent -110.15,165.35 -86.7,188.97
3D body: height 21.81, standoff -1.81, extent -149.52,165.35 -126.07,188.97
3D body: height 21.81, standoff -1.81, extent 480.4,165.35 503.85,188.97
3D body: height 21.81, standoff -1.81, extent 441.03,165.35 464.48,188.97
3D body: height 21.81, standoff -1.81, extent 401.66,165.35 425.11,188.97
3D body: height 21.81, standoff -1.81, extent 362.29,165.35 385.74,188.97
3D body: height 21.81, standoff -1.81, extent 322.92,165.35 346.37,188.97
3D body: height 21.81, standoff -1.81, extent 283.55,165.35 307,188.97
3D body: height 21.81, standoff -1.81, extent 244.18,165.35 267.63,188.97
3D body: height 21.81, standoff -1.81, extent 204.81,165.35 228.26,188.97
3D body: height 21.81, standoff -1.81, extent -188.89,204.72 -165.44,228.34
3D body: height 21.81, standoff -1.81, extent -228.26,204.72 -204.81,228.34
3D body: height 21.81, standoff -1.81, extent -267.63,204.72 -244.18,228.34
3D body: height 21.81, standoff -1.81, extent -307,204.72 -283.55,228.34
3D body: height 21.81, standoff -1.81, extent -346.37,204.72 -322.92,228.34
3D body: height 21.81, standoff -1.81, extent -385.74,204.72 -362.29,228.34
3D body: height 21.81, standoff -1.81, extent -425.11,204.72 -401.66,228.34
3D body: height 21.81, standoff -1.81, extent -464.48,204.72 -441.03,228.34
3D body: height 21.81, standoff -1.81, extent -503.85,204.72 -480.4,228.34
3D body: height 21.81, standoff -1.81, extent 165.44,204.72 188.89,228.34
3D body: height 21.81, standoff -1.81, extent 126.07,204.72 149.52,228.34
3D body: height 21.81, standoff -1.81, extent 86.7,204.72 110.15,228.34
3D body: height 21.81, standoff -1.81, extent 47.33,204.72 70.78,228.34
3D body: height 21.81, standoff -1.81, extent 7.96,204.72 31.41,228.34
3D body: height 21.81, standoff -1.81, extent -31.41,204.72 -7.96,228.34
3D body: height 21.81, standoff -1.81, extent -70.78,204.72 -47.33,228.34
3D body: height 21.81, standoff -1.81, extent -110.15,204.72 -86.7,228.34
3D body: height 21.81, standoff -1.81, extent -149.52,204.72 -126.07,228.34
3D body: height 21.81, standoff -1.81, extent 480.4,204.72 503.85,228.34
3D body: height 21.81, standoff -1.81, extent 441.03,204.72 464.48,228.34
3D body: height 21.81, standoff -1.81, extent 401.66,204.72 425.11,228.34
3D body: height 21.81, standoff -1.81, extent 362.29,204.72 385.74,228.34
3D body: height 21.81, standoff -1.81, extent 322.92,204.72 346.37,228.34
3D body: height 21.81, standoff -1.81, extent 283.55,204.72 307,228.34
3D body: height 21.81, standoff -1.81, extent 244.18,204.72 267.63,228.34
3D body: height 21.81, standoff -1.81, extent 204.81,204.72 228.26,228.34
3D body: height 21.81, standoff -1.81, extent -188.89,244.09 -165.44,267.71
3D body: height 21.81, standoff -1.81, extent -228.26,244.09 -204.81,267.71
3D body: height 21.81, standoff -1.81, extent -267.63,244.09 -244.18,267.71
3D body: height 21.81, standoff -1.81, extent -307,244.09 -283.55,267.71
3D body: height 21.81, standoff -1.81, extent -346.37,244.09 -322.92,267.71
3D body: height 21.81, standoff -1.81, extent -385.74,244.09 -362.29,267.71
3D body: height 21.81, standoff -1.81, extent -425.11,244.09 -401.66,267.71
3D body: height 21.81, standoff -1.81, extent -464.48,244.09 -441.03,267.71
3D body: height 21.81, standoff -1.81, extent -503.85,244.09 -480.4,267.71
3D body: height 21.81, standoff -1.81, extent 165.44,244.09 188.89,267.71
3D body: height 21.81, standoff -1.81, extent 126.07,244.09 149.52,267.71
3D body: height 21.81, standoff -1.81, extent 86.7,244.09 110.15,267.71
3D body: height 21.81, standoff -1.81, extent 47.33,244.09 70.78,267.71
3D body: height 21.81, standoff -1.81, extent 7.96,244.09 31.41,267.71
3D body: height 21.81, standoff -1.81, extent -31.41,244.09 -7.96,267.71
3D body: height 21.81, standoff -1.81, extent -70.78,244.09 -47.33,267.71
3D body: height 21.81, standoff -1.81, extent -110.15,244.09 -86.7,267.71
3D body: height 21.81, standoff -1.81, extent -149.52,244.09 -126.07,267.71
3D body: height 21.81, standoff -1.81, extent 480.4,244.09 503.85,267.71
3D body: height 21.81, standoff -1.81, extent 441.03,244.09 464.48,267.71
3D body: height 21.81, standoff -1.81, extent 401.66,244.09 425.11,267.71
3D body: height 21.81, standoff -1.81, extent 362.29,244.09 385.74,267.71
3D body: height 21.81, standoff -1.81, extent 322.92,244.09 346.37,267.71
3D body: height 21.81, standoff -1.81, extent 283.55,244.09 307,267.71
3D body: height 21.81, standoff -1.81, extent 244.18,244.09 267.63,267.71
3D body: height 21.81, standoff -1.81, extent 204.81,244.09 228.26,267.71
3D body: height 21.81, standoff -1.81, extent -188.89,283.46 -165.44,307.08
3D body: height 21.81, standoff -1.81, extent -228.26,283.46 -204.81,307.08
3D body: height 21.81, standoff -1.81, extent -267.63,283.46 -244.18,307.08
3D body: height 21.81, standoff -1.81, extent -307,283.46 -283.55,307.08
3D body: height 21.81, standoff -1.81, extent -346.37,283.46 -322.92,307.08
3D body: height 21.81, standoff -1.81, extent -385.74,283.46 -362.29,307.08
3D body: height 21.81, standoff -1.81, extent -425.11,283.46 -401.66,307.08
3D body: height 21.81, standoff -1.81, extent -464.48,283.46 -441.03,307.08
3D body: height 21.81, standoff -1.81, extent -503.85,283.46 -480.4,307.08
3D body: height 21.81, standoff -1.81, extent 165.44,283.46 188.89,307.08
3D body: height 21.81, standoff -1.81, extent 126.07,283.46 149.52,307.08
3D body: height 21.81, standoff -1.81, extent 86.7,283.46 110.15,307.08
3D body: height 21.81, standoff -1.81, extent 47.33,283.46 70.78,307.08
3D body: height 21.81, standoff -1.81, extent 7.96,283.46 31.41,307.08
3D body: height 21.81, standoff -1.81, extent -31.41,283.46 -7.96,307.08
3D body: height 21.81, standoff -1.81, extent -70.78,283.46 -47.33,307.08
3D body: height 21.81, standoff -1.81, extent -110.15,283.46 -86.7,307.08
3D body: height 21.81, standoff -1.81, extent -149.52,283.46 -126.07,307.08
3D body: height 21.81, standoff -1.81, extent 480.4,283.46 503.85,307.08
3D body: height 21.81, standoff -1.81, extent 441.03,283.46 464.48,307.08
3D body: height 21.81, standoff -1.81, extent 401.66,283.46 425.11,307.08
3D body: height 21.81, standoff -1.81, extent 362.29,283.46 385.74,307.08
3D body: height 21.81, standoff -1.81, extent 322.92,283.46 346.37,307.08
3D body: height 21.81, standoff -1.81, extent 283.55,283.46 307,307.08
3D body: height 21.81, standoff -1.81, extent 244.18,283.46 267.63,307.08
3D body: height 21.81, standoff -1.81, extent 204.81,283.46 228.26,307.08
3D body: height 21.81, standoff -1.81, extent -188.89,322.83 -165.44,346.45
3D body: height 21.81, standoff -1.81, extent -228.26,322.83 -204.81,346.45
3D body: height 21.81, standoff -1.81, extent -267.63,322.83 -244.18,346.45
3D body: height 21.81, standoff -1.81, extent -307,322.83 -283.55,346.45
3D body: height 21.81, standoff -1.81, extent -346.37,322.83 -322.92,346.45
3D body: height 21.81, standoff -1.81, extent -385.74,322.83 -362.29,346.45
3D body: height 21.81, standoff -1.81, extent -425.11,322.83 -401.66,346.45
3D body: height 21.81, standoff -1.81, extent -464.48,322.83 -441.03,346.45
3D body: height 21.81, standoff -1.81, extent -503.85,322.83 -480.4,346.45
3D body: height 21.81, standoff -1.81, extent 165.44,322.83 188.89,346.45
3D body: height 21.81, standoff -1.81, extent 126.07,322.83 149.52,346.45
3D body: height 21.81, standoff -1.81, extent 86.7,322.83 110.15,346.45
3D body: height 21.81, standoff -1.81, extent 47.33,322.83 70.78,346.45
3D body: height 21.81, standoff -1.81, extent 7.96,322.83 31.41,346.45
3D body: height 21.81, standoff -1.81, extent -31.41,322.83 -7.96,346.45
3D body: height 21.81, standoff -1.81, extent -70.78,322.83 -47.33,346.45
3D body: height 21.81, standoff -1.81, extent -110.15,322.83 -86.7,346.45
3D body: height 21.81, standoff -1.81, extent -149.52,322.83 -126.07,346.45
3D body: height 21.81, standoff -1.81, extent 480.4,322.83 503.85,346.45
3D body: height 21.81, standoff -1.81, extent 441.03,322.83 464.48,346.45
3D body: height 21.81, standoff -1.81, extent 401.66,322.83 425.11,346.45
3D body: height 21.81, standoff -1.81, extent 362.29,322.83 385.74,346.45
3D body: height 21.81, standoff -1.81, extent 322.92,322.83 346.37,346.45
3D body: height 21.81, standoff -1.81, extent 283.55,322.83 307,346.45
3D body: height 21.81, standoff -1.81, extent 244.18,322.83 267.63,346.45
3D body: height 21.81, standoff -1.81, extent 204.81,322.83 228.26,346.45
3D body: height 21.81, standoff -1.81, extent -188.89,362.2 -165.44,385.82
3D body: height 21.81, standoff -1.81, extent -228.26,362.2 -204.81,385.82
3D body: height 21.81, standoff -1.81, extent -267.63,362.2 -244.18,385.82
3D body: height 21.81, standoff -1.81, extent -307,362.2 -283.55,385.82
3D body: height 21.81, standoff -1.81, extent -346.37,362.2 -322.92,385.82
3D body: height 21.81, standoff -1.81, extent -385.74,362.2 -362.29,385.82
3D body: height 21.81, standoff -1.81, extent -425.11,362.2 -401.66,385.82
3D body: height 21.81, standoff -1.81, extent -464.48,362.2 -441.03,385.82
3D body: height 21.81, standoff -1.81, extent -503.85,362.2 -480.4,385.82
3D body: height 21.81, standoff -1.81, extent 165.44,362.2 188.89,385.82
3D body: height 21.81, standoff -1.81, extent 126.07,362.2 149.52,385.82
3D body: height 21.81, standoff -1.81, extent 86.7,362.2 110.15,385.82
3D body: height 21.81, standoff -1.81, extent 47.33,362.2 70.78,385.82
3D body: height 21.81, standoff -1.81, extent 7.96,362.2 31.41,385.82
3D body: height 21.81, standoff -1.81, extent -31.41,362.2 -7.96,385.82
3D body: height 21.81, standoff -1.81, extent -70.78,362.2 -47.33,385.82
3D body: height 21.81, standoff -1.81, extent -110.15,362.2 -86.7,385.82
3D body: height 21.81, standoff -1.81, extent -149.52,362.2 -126.07,385.82
3D body: height 21.81, standoff -1.81, extent 480.4,362.2 503.85,385.82
3D body: height 21.81, standoff -1.81, extent 441.03,362.2 464.48,385.82
3D body: height 21.81, standoff -1.81, extent 401.66,362.2 425.11,385.82
3D body: height 21.81, standoff -1.81, extent 362.29,362.2 385.74,385.82
3D body: height 21.81, standoff -1.81, extent 322.92,362.2 346.37,385.82
3D body: height 21.81, standoff -1.81, extent 283.55,362.2 307,385.82
3D body: height 21.81, standoff -1.81, extent 244.18,362.2 267.63,385.82
3D body: height 21.81, standoff -1.81, extent 204.81,362.2 228.26,385.82
3D body: height 21.81, standoff -1.81, extent -188.89,401.57 -165.44,425.19
3D body: height 21.81, standoff -1.81, extent -228.26,401.57 -204.81,425.19
3D body: height 21.81, standoff -1.81, extent -267.63,401.57 -244.18,425.19
3D body: height 21.81, standoff -1.81, extent -307,401.57 -283.55,425.19
3D body: height 21.81, standoff -1.81, extent -346.37,401.57 -322.92,425.19
3D body: height 21.81, standoff -1.81, extent -385.74,401.57 -362.29,425.19
3D body: height 21.81, standoff -1.81, extent -425.11,401.57 -401.66,425.19
3D body: height 21.81, standoff -1.81, extent -464.48,401.57 -441.03,425.19
3D body: height 21.81, standoff -1.81, extent -503.85,401.57 -480.4,425.19
3D body: height 21.81, standoff -1.81, extent 165.44,401.57 188.89,425.19
3D body: height 21.81, standoff -1.81, extent 126.07,401.57 149.52,425.19
3D body: height 21.81, standoff -1.81, extent 86.7,401.57 110.15,425.19
3D body: height 21.81, standoff -1.81, extent 47.33,401.57 70.78,425.19
3D body: height 21.81, standoff -1.81, extent 7.96,401.57 31.41,425.19
3D body: height 21.81, standoff -1.81, extent -31.41,401.57 -7.96,425.19
3D body: height 21.81, standoff -1.81, extent -70.78,401.57 -47.33,425.19
3D body: height 21.81, standoff -1.81, extent -110.15,401.57 -86.7,425.19
3D body: height 21.81, standoff -1.81, extent -149.52,401.57 -126.07,425.19
3D body: height 21.81, standoff -1.81, extent 480.4,401.57 503.85,425.19
3D body: height 21.81, standoff -1.81, extent 441.03,401.57 464.48,425.19
3D body: height 21.81, standoff -1.81, extent 401.66,401.57 425.11,425.19
3D body: height 21.81, standoff -1.81, extent 362.29,401.57 385.74,425.19
3D body: height 21.81, standoff -1.81, extent 322.92,401.57 346.37,425.19
3D body: height 21.81, standoff -1.81, extent 283.55,401.57 307,425.19
3D body: height 21.81, standoff -1.81, extent 244.18,401.57 267.63,425.19
3D body: height 21.81, standoff -1.81, extent 204.81,401.57 228.26,425.19
3D body: height 21.81, standoff -1.81, extent 204.81,440.94 228.26,464.56
3D body: height 21.81, standoff -1.81, extent 244.18,440.94 267.63,464.56
3D body: height 21.81, standoff -1.81, extent 283.55,440.94 307,464.56
3D body: height 21.81, standoff -1.81, extent 322.92,440.94 346.37,464.56
3D body: height 21.81, standoff -1.81, extent 362.29,440.94 385.74,464.56
3D body: height 21.81, standoff -1.81, extent 401.66,440.94 425.11,464.56
3D body: height 21.81, standoff -1.81, extent 441.03,440.94 464.48,464.56
3D body: height 21.81, standoff -1.81, extent 480.4,440.94 503.85,464.56
3D body: height 21.81, standoff -1.81, extent -149.52,440.94 -126.07,464.56
3D body: height 21.81, standoff -1.81, extent -110.15,440.94 -86.7,464.56
3D body: height 21.81, standoff -1.81, extent -70.78,440.94 -47.33,464.56
3D body: height 21.81, standoff -1.81, extent -31.41,440.94 -7.96,464.56
3D body: height 21.81, standoff -1.81, extent 7.96,440.94 31.41,464.56
3D body: height 21.81, standoff -1.81, extent 47.33,440.94 70.78,464.56
3D body: height 21.81, standoff -1.81, extent 86.7,440.94 110.15,464.56
3D body: height 21.81, standoff -1.81, extent 126.07,440.94 149.52,464.56
3D body: height 21.81, standoff -1.81, extent 165.44,440.94 188.89,464.56
3D body: height 21.81, standoff -1.81, extent -503.85,440.94 -480.4,464.56
3D body: height 21.81, standoff -1.81, extent -464.48,440.94 -441.03,464.56
3D body: height 21.81, standoff -1.81, extent -425.11,440.94 -401.66,464.56
3D body: height 21.81, standoff -1.81, extent -385.74,440.94 -362.29,464.56
3D body: height 21.81, standoff -1.81, extent -346.37,440.94 -322.92,464.56
3D body: height 21.81, standoff -1.81, extent -307,440.94 -283.55,464.56
3D body: height 21.81, standoff -1.81, extent -267.63,440.94 -244.18,464.56
3D body: height 21.81, standoff -1.81, extent -228.26,440.94 -204.81,464.56
3D body: height 21.81, standoff -1.81, extent -188.89,440.94 -165.44,464.56
3D body: height 21.81, standoff -1.81, extent -464.48,480.32 -441.03,503.94
3D body: height 21.81, standoff -1.81, extent -110.15,480.32 -86.7,503.94
3D body: height 21.81, standoff -1.81, extent -149.52,480.32 -126.07,503.94
3D body: height 21.81, standoff -1.81, extent -188.89,480.32 -165.44,503.94
3D body: height 21.81, standoff -1.81, extent -228.26,480.32 -204.81,503.94
3D body: height 21.81, standoff -1.81, extent -267.63,480.32 -244.18,503.94
3D body: height 21.81, standoff -1.81, extent -307,480.32 -283.55,503.94
3D body: height 21.81, standoff -1.81, extent -346.37,480.32 -322.92,503.94
3D body: height 21.81, standoff -1.81, extent -385.74,480.32 -362.29,503.94
3D body: height 21.81, standoff -1.81, extent -425.11,480.32 -401.66,503.94
3D body: height 21.81, standoff -1.81, extent 244.18,480.32 267.63,503.94
3D body: height 21.81, standoff -1.81, extent 204.81,480.32 228.26,503.94
3D body: height 21.81, standoff -1.81, extent 165.44,480.32 188.89,503.94
3D body: height 21.81, standoff -1.81, extent 126.07,480.32 149.52,503.94
3D body: height 21.81, standoff -1.81, extent 86.7,480.32 110.15,503.94
3D body: height 21.81, standoff -1.81, extent 47.33,480.32 70.78,503.94
3D body: height 21.81, standoff -1.81, extent 7.96,480.32 31.41,503.94
3D body: height 21.81, standoff -1.81, extent -31.41,480.32 -7.96,503.94
3D body: height 21.81, standoff -1.81, extent -70.78,480.32 -47.33,503.94
3D body: height 21.81, standoff -1.81, extent 283.55,480.32 307,503.94
3D body: height 21.81, standoff -1.81, extent 322.92,480.32 346.37,503.94
3D body: height 21.81, standoff -1.81, extent 362.29,480.32 385.74,503.94
3D body: height 21.81, standoff -1.81, extent 401.66,480.32 425.11,503.94
3D body: height 21.81, standoff -1.81, extent 441.03,480.32 464.48,503.94
3D body: height 39.37, standoff 19.68, extent -531.5,-531.5 531.5,531.5
3D body: height 72.83, standoff 31.5, extent -503.85,-503.78 503.86,503.94